# EAGLE library part 615016245421 (library EagleLibrary_Wuerth_Elektronik_eiCan_Communication_Connectors_v6_20150113)
WR-MJ Horizontal Shielded Dual Stacked Port with LED & EMI Panel Finger 8P8C M. Jack Tab Up & Down, 16 Pins=>Code : Con_I-O_MJ-H_Shielded_Up-Down_615016245421 <http://katalog.we-online.de/media/images/eican/Con_I-O_MJ-H_Shielded_Up-Down_615016245421_pf2.jpg> Details see: http://katalog.we-online.de/en/em/615_016_245_421 Created 2014-07-10, Karrer Zheng 2014 (C) Würth Elektronik
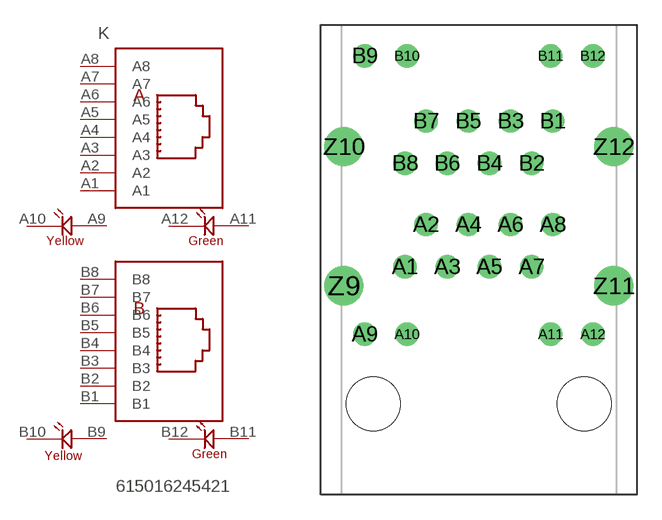
[diagram p127: symbol with the pads of 615016245421; footprint 615016245421]

Designator prefix K

## 615016245421  [615016245421]
A1  A1  pas
A2  A2  pas
A3  A3  pas
A4  A4  pas
A5  A5  pas
A6  A6  pas
A7  A7  pas
A8  A8  pas
A9  A11  pas
A10  A12  pas
A11  A9  pas
A12  A10  pas
B1  B1  pas
B2  B2  pas
B3  B3  pas
B4  B4  pas
B5  B5  pas
B6  B6  pas
B7  B7  pas
B8  B8  pas
B9  B11  pas
B10  B12  pas
B11  B9  pas
B12  B10  pas

## Footprint 615016245421 (pad centres in mm)
WR-MJ Horizontal Shielded Dual Stacked Port with LED & EMI Panel Finger 8P8C M. Jack Tab Up & Down, 16 Pins
drill 0.89: A1 -4.445,-1.27; A2 -3.175,1.27; A3 -1.905,-1.27; A4 -0.635,1.27; A5 0.635,-1.27; A6 1.905,1.27; A7 3.175,-1.27; A8 4.445,1.27; A9 -6.86,-5.33; A10 -4.32,-5.33; A11 4.32,-5.33; A12 6.86,-5.33; B1 4.445,7.5; B2 3.175,4.96; B3 1.905,7.5; B4 0.635,4.96; B5 -0.635,7.5; B6 -1.905,4.96; B7 -3.175,7.5; B8 -4.445,4.96; B9 -6.86,11.43; B10 -4.32,11.43; B11 4.32,11.43; B12 6.86,11.43
drill 1.57: Z9 -8.12,-2.41; Z10 -8.12,5.97; Z11 8.12,-2.41; Z12 8.12,5.97
hole 3.25 at -6.345,-9.52
hole 3.25 at 6.345,-9.52